# EAGLE library part SFP (library Labor)
SFP (Small Form-factor Pluggable) Connector
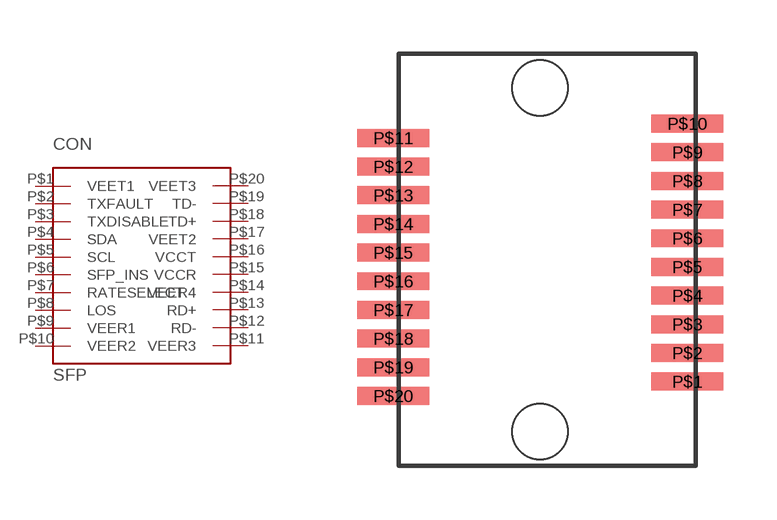
[diagram p4: symbol with the pads of SFP; footprint SFP]

Designator prefix CON

## SFP  [SFP]
P$1  VEET1
P$2  TXFAULT
P$3  TXDISABLE
P$4  SDA
P$5  SCL
P$6  SFP_INS
P$7  RATESELECT
P$8  LOS
P$9  VEER1
P$10  VEER2
P$11  VEER3
P$12  RD-
P$13  RD+
P$14  VEER4
P$15  VCCR
P$16  VCCT
P$17  VEET2
P$18  TD+
P$19  TD-
P$20  VEET3

## Footprint SFP (pad centres in mm)
SFP Small Form-factor Pluggable Connector
smd 2 x 0.5: P$1 8.04,2.35; P$2 8.04,3.15; P$3 8.04,3.95; P$4 8.04,4.75; P$5 8.04,5.55; P$6 8.04,6.35; P$7 8.04,7.15; P$8 8.04,7.95; P$9 8.04,8.75; P$10 8.04,9.55; P$11 -0.16,9.15; P$12 -0.16,8.35; P$13 -0.16,7.55; P$14 -0.16,6.75; P$15 -0.16,5.95; P$16 -0.16,5.15; P$17 -0.16,4.35; P$18 -0.16,3.55; P$19 -0.16,2.75; P$20 -0.16,1.95
hole 1.55 at 3.94,0.95
hole 1.55 at 3.94,10.55